# Altium integrated library Harris Discrete Voltage-Sensitive Resistor.IntLib: 11 symbols
Pins are listed as number, name and electrical type; pins without a type are passive.

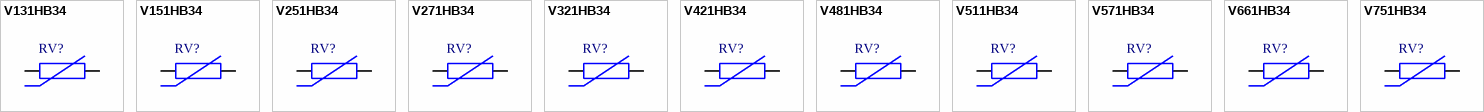
[diagram p0: symbols V131HB34 to V751HB34]

## V131HB34
designator RV?
Industrial High Energy Metal-Oxide Varistor; Note: PCB footprint includes slot outline.  Assign keep-out area to slots.  Alert PCB fab regarding slot specifications.; Published: 29-Sep-2000; LatestRevisionDate: 17-Jul-2002; LatestRevisionNote: Re-released for DXP Platform.; DatasheetDocument: Jul-1999; PackageDocument: Jul-1999; PackageReference: SIL-P2/C5.5; Publisher: Altium Limited; ComponentLink1Description: Manufacturer Link; ComponentLink1URL: http://www.littelfuse.com/; ComponentLink2Description: Datasheet; ComponentLink2URL: http://www.littelfuse.com/data/en/Data_Sheets/Hx34.pdf
footprint SIL-P2/C5.5 (MOV; 2 Terminals; Body 37 x 5.7 x 44.5 mm (LxWxH))
signal-integrity model V131HB34
pins: 1, 2

## V151HB34
designator RV?
Industrial High Energy Metal-Oxide Varistor; Note: PCB footprint includes slot outline.  Assign keep-out area to slots.  Alert PCB fab regarding slot specifications.; Published: 29-Sep-2000; LatestRevisionDate: 17-Jul-2002; LatestRevisionNote: Re-released for DXP Platform.; DatasheetDocument: Jul-1999; PackageDocument: Jul-1999; PackageReference: SIL-P2/C5.9; Publisher: Altium Limited; ComponentLink1Description: Manufacturer Link; ComponentLink1URL: http://www.littelfuse.com/; ComponentLink2Description: Datasheet; ComponentLink2URL: http://www.littelfuse.com/data/en/Data_Sheets/Hx34.pdf
footprint SIL-P2/C5.9 (MOV; 2 Terminals; Body 37 x 5.9 x 44.5 mm (LxWxH))
signal-integrity model V151HB34
pins: 1, 2

## V251HB34
designator RV?
Industrial High Energy Metal-Oxide Varistor; Note: PCB footprint includes slot outline.  Assign keep-out area to slots.  Alert PCB fab regarding slot specifications.; Published: 29-Sep-2000; LatestRevisionDate: 17-Jul-2002; LatestRevisionNote: Re-released for DXP Platform.; DatasheetDocument: Jul-1999; PackageDocument: Jul-1999; PackageReference: SIL-P2/C6.25; Publisher: Altium Limited; ComponentLink1Description: Manufacturer Link; ComponentLink1URL: http://www.littelfuse.com/; ComponentLink2Description: Datasheet; ComponentLink2URL: http://www.littelfuse.com/data/en/Data_Sheets/Hx34.pdf
footprint SIL-P2/C6.25 (MOV; 2 Terminals; Body 37 x 6.1 x 44.5 mm (LxWxH))
signal-integrity model V251HB34
pins: 1, 2

## V271HB34
designator RV?
Industrial High Energy Metal-Oxide Varistor; Note: PCB footprint includes slot outline.  Assign keep-out area to slots.  Alert PCB fab regarding slot specifications.; Published: 29-Sep-2000; LatestRevisionDate: 17-Jul-2002; LatestRevisionNote: Re-released for DXP Platform.; DatasheetDocument: Jul-1999; PackageDocument: Jul-1999; PackageReference: SIL-P2/C6.5; Publisher: Altium Limited; ComponentLink1Description: Manufacturer Link; ComponentLink1URL: http://www.littelfuse.com/; ComponentLink2Description: Datasheet; ComponentLink2URL: http://www.littelfuse.com/data/en/Data_Sheets/Hx34.pdf
footprint SIL-P2/C6.5 (MOV; 2 Terminals; Body 37 x 6.4 x 44.5 mm (LxWxH))
signal-integrity model V271HB34
pins: 1, 2

## V321HB34
designator RV?
Industrial High Energy Metal-Oxide Varistor; Note: PCB footprint includes slot outline.  Assign keep-out area to slots.  Alert PCB fab regarding slot specifications.; Published: 29-Sep-2000; LatestRevisionDate: 17-Jul-2002; LatestRevisionNote: Re-released for DXP Platform.; DatasheetDocument: Jul-1999; PackageDocument: Jul-1999; PackageReference: SIL-P2/C6.9; Publisher: Altium Limited; ComponentLink1Description: Manufacturer Link; ComponentLink1URL: http://www.littelfuse.com/; ComponentLink2Description: Datasheet; ComponentLink2URL: http://www.littelfuse.com/data/en/Data_Sheets/Hx34.pdf
footprint SIL-P2/C6.9 (MOV; 2 Terminals; Body 37 x 6.9 x 44.5 mm (LxWxH))
signal-integrity model V321HB34
pins: 1, 2

## V421HB34
designator RV?
Industrial High Energy Metal-Oxide Varistor; Note: PCB footprint includes slot outline.  Assign keep-out area to slots.  Alert PCB fab regarding slot specifications.; Published: 29-Sep-2000; LatestRevisionDate: 17-Jul-2002; LatestRevisionNote: Re-released for DXP Platform.; DatasheetDocument: Jul-1999; PackageDocument: Jul-1999; PackageReference: SIL-P2/C7.85; Publisher: Altium Limited; ComponentLink1Description: Manufacturer Link; ComponentLink1URL: http://www.littelfuse.com/; ComponentLink2Description: Datasheet; ComponentLink2URL: http://www.littelfuse.com/data/en/Data_Sheets/Hx34.pdf
footprint SIL-P2/C7.85 (MOV; 2 Terminals; Body 37 x 7.8 x 44.5 mm (LxWxH))
signal-integrity model V421HB34
pins: 1, 2

## V481HB34
designator RV?
Industrial High Energy Metal-Oxide Varistor; Note: PCB footprint includes slot outline.  Assign keep-out area to slots.  Alert PCB fab regarding slot specifications.; Published: 29-Sep-2000; LatestRevisionDate: 17-Jul-2002; LatestRevisionNote: Re-released for DXP Platform.; DatasheetDocument: Jul-1999; PackageDocument: Jul-1999; PackageReference: SIL-P2/C8.25; Publisher: Altium Limited; ComponentLink1Description: Manufacturer Link; ComponentLink1URL: http://www.littelfuse.com/; ComponentLink2Description: Datasheet; ComponentLink2URL: http://www.littelfuse.com/data/en/Data_Sheets/Hx34.pdf
footprint SIL-P2/C8.25 (MOV; 2 Terminals; Body 37 x 8.3 x 44.5 mm (LxWxH))
signal-integrity model V481HB34
pins: 1, 2

## V511HB34
designator RV?
Industrial High Energy Metal-Oxide Varistor; Note: PCB footprint includes slot outline.  Assign keep-out area to slots.  Alert PCB fab regarding slot specifications.; Published: 29-Sep-2000; LatestRevisionDate: 17-Jul-2002; LatestRevisionNote: Re-released for DXP Platform.; DatasheetDocument: Jul-1999; PackageDocument: Jul-1999; PackageReference: SIL-P2/C8.6; Publisher: Altium Limited; ComponentLink1Description: Manufacturer Link; ComponentLink1URL: http://www.littelfuse.com/; ComponentLink2Description: Datasheet; ComponentLink2URL: http://www.littelfuse.com/data/en/Data_Sheets/Hx34.pdf
footprint SIL-P2/C8.6 (MOV; 2 Terminals; Body 37 x 8.8 x 44.5 mm (LxWxH))
signal-integrity model V511HB34
pins: 1, 2

## V571HB34
designator RV?
Industrial High Energy Metal-Oxide Varistor; Note: PCB footprint includes slot outline.  Assign keep-out area to slots.  Alert PCB fab regarding slot specifications.; Published: 29-Sep-2000; LatestRevisionDate: 17-Jul-2002; LatestRevisionNote: Re-released for DXP Platform.; DatasheetDocument: Jul-1999; PackageDocument: Jul-1999; PackageReference: SIL-P2/C8.85; Publisher: Altium Limited; ComponentLink1Description: Manufacturer Link; ComponentLink1URL: http://www.littelfuse.com/; ComponentLink2Description: Datasheet; ComponentLink2URL: http://www.littelfuse.com/data/en/Data_Sheets/Hx34.pdf
footprint SIL-P2/C8.85 (MOV; 2 Terminals; Body 37 x 9.4 x 44.5 mm (LxWxH))
signal-integrity model V571HB34
pins: 1, 2

## V661HB34
designator RV?
Industrial High Energy Metal-Oxide Varistor; Note: PCB footprint includes slot outline.  Assign keep-out area to slots.  Alert PCB fab regarding slot specifications.; Published: 29-Sep-2000; LatestRevisionDate: 17-Jul-2002; LatestRevisionNote: Re-released for DXP Platform.; DatasheetDocument: Jul-1999; PackageDocument: Jul-1999; PackageReference: SIL-P2/C9.65; Publisher: Altium Limited; ComponentLink1Description: Manufacturer Link; ComponentLink1URL: http://www.littelfuse.com/; ComponentLink2Description: Datasheet; ComponentLink2URL: http://www.littelfuse.com/data/en/Data_Sheets/Hx34.pdf
footprint SIL-P2/C9.65 (MOV; 2 Terminals; Body 37 x 10.2 x 44.5 mm (LxWxH))
signal-integrity model V661HB34
pins: 1, 2

## V751HB34
designator RV?
Industrial High Energy Metal-Oxide Varistor; Note: PCB footprint includes slot outline.  Assign keep-out area to slots.  Alert PCB fab regarding slot specifications.; Published: 29-Sep-2000; LatestRevisionDate: 17-Jul-2002; LatestRevisionNote: Re-released for DXP Platform.; DatasheetDocument: Jul-1999; PackageDocument: Jul-1999; PackageReference: SIL-P2/C10.65; Publisher: Altium Limited; ComponentLink1Description: Manufacturer Link; ComponentLink1URL: http://www.littelfuse.com/; ComponentLink2Description: Datasheet; ComponentLink2URL: http://www.littelfuse.com/data/en/Data_Sheets/Hx34.pdf
footprint SIL-P2/C10.65 (MOV; 2 Terminals; Body 37 x 10.7 x 44.5 mm (LxWxH))
signal-integrity model V751HB34
pins: 1, 2